# Altium schematic symbol library LED.SchLib: 24 symbols
Pins are listed as number, name and electrical type; pins without a type are passive.

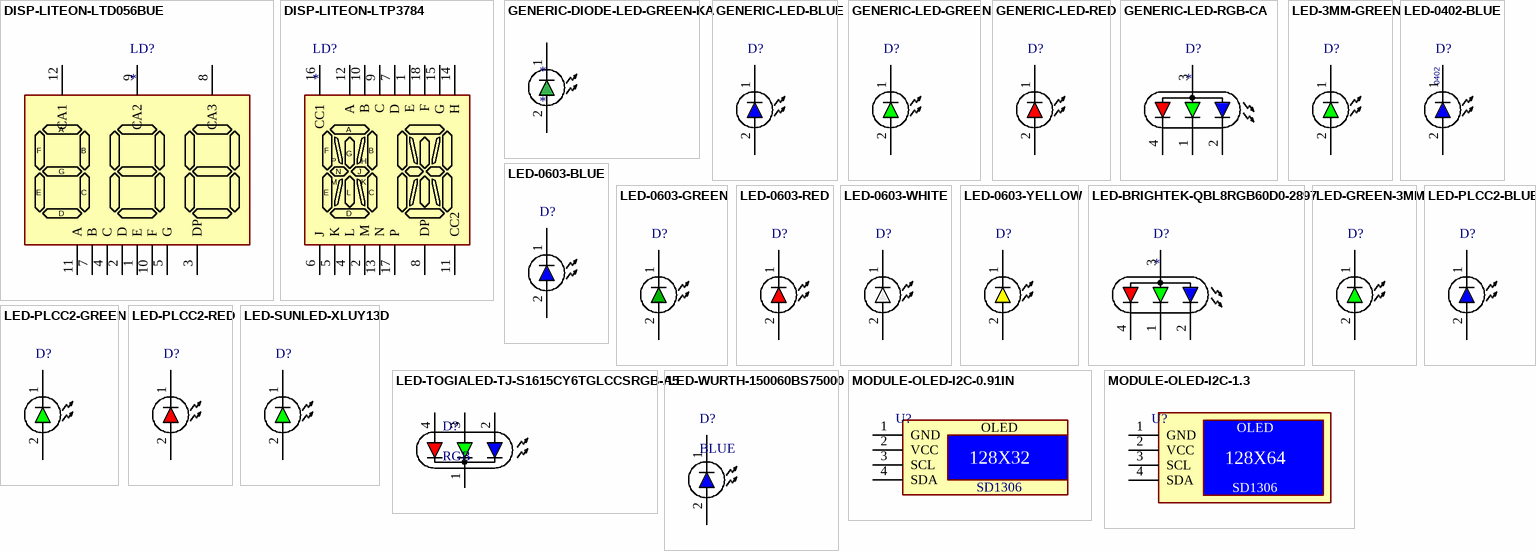
[diagram p0: symbols DISP-LITEON-LTD056BUE to MODULE-OLED-I2C-1.3]

## DISP-LITEON-LTD056BUE
designator LD?
pins: 1 E, 2 D, 3 DP, 4 C, 5 G, 7 B, 8 CA3, 9 CA2, 10 F, 11 A, 12 CA1

## DISP-LITEON-LTP3784
designator LD?
pins: 1 E, 2 M, 4 L, 5 K, 6 J, 7 D, 8 DP, 9 C, 10 B, 11 CC2, 12 A, 13 N, 14 H, 15 G, 16 CC1, 17 P, 18 F

## GENERIC-DIODE-LED-GREEN-KA
designator *
pins: 1 A, 2 K

## GENERIC-LED-BLUE
designator D?  (value not drawn)
footprint LED-PLCC2-BLUE (SMD Mono-color TOP LED, body 3.2x2.8mm)
pins: 1 A, 2 K

## GENERIC-LED-GREEN
designator D?  (value not drawn)
footprint LED-PLCC2-GREEN (SMD Mono-color TOP LED, body 3.2x2.8mm)
pins: 1 A, 2 K

## GENERIC-LED-RED
designator D?  (value not drawn)
footprint LED-PLCC2-RED (SMD Mono-color TOP LED, body 3.2x2.8mm)
pins: 1 A, 2 K

## GENERIC-LED-RGB-CA
designator D?
pins: 1 GREEN, 2 BLUE, 3 COMMON ANODE, 4 RED

## LED-3MM-GREEN
designator D?  (value not drawn)
LED,TH,GREEN,42mCd,3MM; Manufacturer 1: WURTH; Manufacturer Part Number 1: 151031VS06000; MOUSER: 78-VLMPG33N1P2; Supplier 1: Mouser; Supplier Part Number 1: 78-VLMPG33N1P2
footprint LED-3MM-GREEN
pins: 1 A, 2 K

## LED-0402-BLUE
designator D?  (value not drawn)
LED,SMD,BLUE,90mCd,0603; Manufacturer 1: Yongyu Photoelectric; Manufacturer Part Number 1: SZYY0402B; LCSC: C434447
footprint LED-0402-BLUE (LED. 0402, BLUE)
pins: 1 A, 2 K
text: 0402

## LED-0603-BLUE
designator D?  (value not drawn)
LED,SMD,BLUE,90mCd,0603; Manufacturer 1: LITEON; Manufacturer Part Number 1: LTST-C193TBKT-2A; LCSC: C157738
footprint LED-PLCC2-BLUE (SMD Mono-color TOP LED, body 3.2x2.8mm)
pins: 1 A, 2 K

## LED-0603-GREEN
designator D?  (value not drawn)
LED,SMD,GREEN,42mCd,0603; Manufacturer 1: LITEON; Manufacturer Part Number 1: LTST-C193TGKT-5A; LCSC: C12065
footprint LED-0603-GREEN (LED,0603,LITEON,LTST-C193TGKT-5A)
pins: 1 A, 2 K

## LED-0603-RED
designator D?  (value not drawn)
LED,SMD,RED,35.5mCd,0603; Manufacturer 1: LITEON; Manufacturer Part Number 1: LTST-C193KRKT-5A; LCSC: C157741
footprint LED-PLCC2-RED (SMD Mono-color TOP LED, body 3.2x2.8mm)
pins: 1 A, 2 K

## LED-0603-WHITE
designator D?, comment KT-0603W  (value not drawn)
LED,SMD,WHITE,42mCd,0603; Manufacturer 1: Hubei KENTO Elec; LCSC: C2290; Manufacturer Part Number 1: KT-0603W
footprint LED-0603-GREEN (LED,0603,LITEON,LTST-C193TGKT-5A)
pins: 1 A, 2 K

## LED-0603-YELLOW
designator D?  (value not drawn)
LED,SMD,YELLOW,90mCd,0603; Manufacturer 1: LITEON; Manufacturer Part Number 1: LITEON LTST-C193KSKT-5A; LCSC: C160477
footprint LED-PLCC2-BLUE (SMD Mono-color TOP LED, body 3.2x2.8mm)
pins: 1 A, 2 K

## LED-BRIGHTEK-QBL8RGB60D0-2897
designator D?
LED,TH,RGB,5MM,BRIGHTEK,QBL8RGB60D0-2897
footprint LED-BRIGHTEK-QBL8RGB60D0-2897
pins: 1 GREEN, 2 BLUE, 3 COMMON ANODE, 4 RED

## LED-GREEN-3MM
designator D?  (value not drawn)
LED,GREEN,TH,3MM
pins: 1 A, 2 K

## LED-PLCC2-BLUE
designator D?  (value not drawn)
LED,SMD,BLUE,90mCd,PLCC-2; Manufacturer 1: VISHAY; Manufacturer Part Number 1: VLMB41P1Q2-GS08; LCSC: C6323026; Supplier 1: Mouser; Supplier Part Number 1: 78-VLMB41P1Q2-GS18; MOUSER: 78-VLMB41P1Q2
footprint LED-PLCC2-BLUE (SMD Mono-color TOP LED, body 3.2x2.8mm)
pins: 1 A, 2 K

## LED-PLCC2-GREEN
designator D?  (value not drawn)
LED,SMD,GREEN,42mCd,PLCC-2; Manufacturer 1: VISHAY; Manufacturer Part Number 1: VLMPG33N1P2-GS08; LCSC: C5248446; MOUSER: 78-VLMPG33N1P2; Supplier 1: Mouser; Supplier Part Number 1: 78-VLMPG33N1P2
footprint LED-PLCC2-GREEN (SMD Mono-color TOP LED, body 3.2x2.8mm)
pins: 1 A, 2 K

## LED-PLCC2-RED
designator D?  (value not drawn)
LED,SMD,RED,35.5mCd,PLCC-2; Manufacturer 1: VISHAY; Manufacturer Part Number 1: VLMK3105-GS08; LCSC: C6584989; MOUSER: 78-VLMK3105
footprint LED-PLCC2-RED (SMD Mono-color TOP LED, body 3.2x2.8mm)
pins: 1 A, 2 K

## LED-SUNLED-XLUY13D
designator D?  (value not drawn)
LED,TH,GREEN,42mCd,2mm PINMOUNT; Manufacturer 1: SUNLED; Manufacturer Part Number 1: XLUY13D; DIGIKEY: XLUY13D-ND; MOUSER: 78-VLMPG33N1P2
footprint LED-SUNLED-XLUY13D (LED.YELLOW,DIFFUSED,FLAT TOP,2MM LENS,RECTANGLE BODY)
pins: 1 A, 2 K

## LED-TOGIALED-TJ-S1615CY6TGLCCSRGB-A5
designator D?, comment RGB
LED,SMD,RGB; Manufacturer 1: TIOGALED; Manufacturer Part Number 1: TJ-S1615CY6TGLCCSRGB-A5; LCSC: C601684
footprint LED-1616-RGB
pins: 1, 2, 3, 4

## LED-WURTH-150060BS75000
designator D?, comment BLUE
LED,BLUE,0603; LCSC: C965807; Supplier 1: Digikey; Supplier Part Number 1: 732-4966-1-ND
footprint LED-0603-BLUE
pins: 1 A, 2 K

## MODULE-OLED-I2C-0.91IN
designator U?  (value not drawn)
pins: 1 GND, 2 VCC, 3 SCL, 4 SDA
text: OLED; 128X32; SD1306

## MODULE-OLED-I2C-1.3
designator U?  (value not drawn)
pins: 1 GND, 2 VCC, 3 SCL, 4 SDA
text: OLED; 128X64; SD1306